# EAGLE library part STM32F030C6T6 (library canusb)
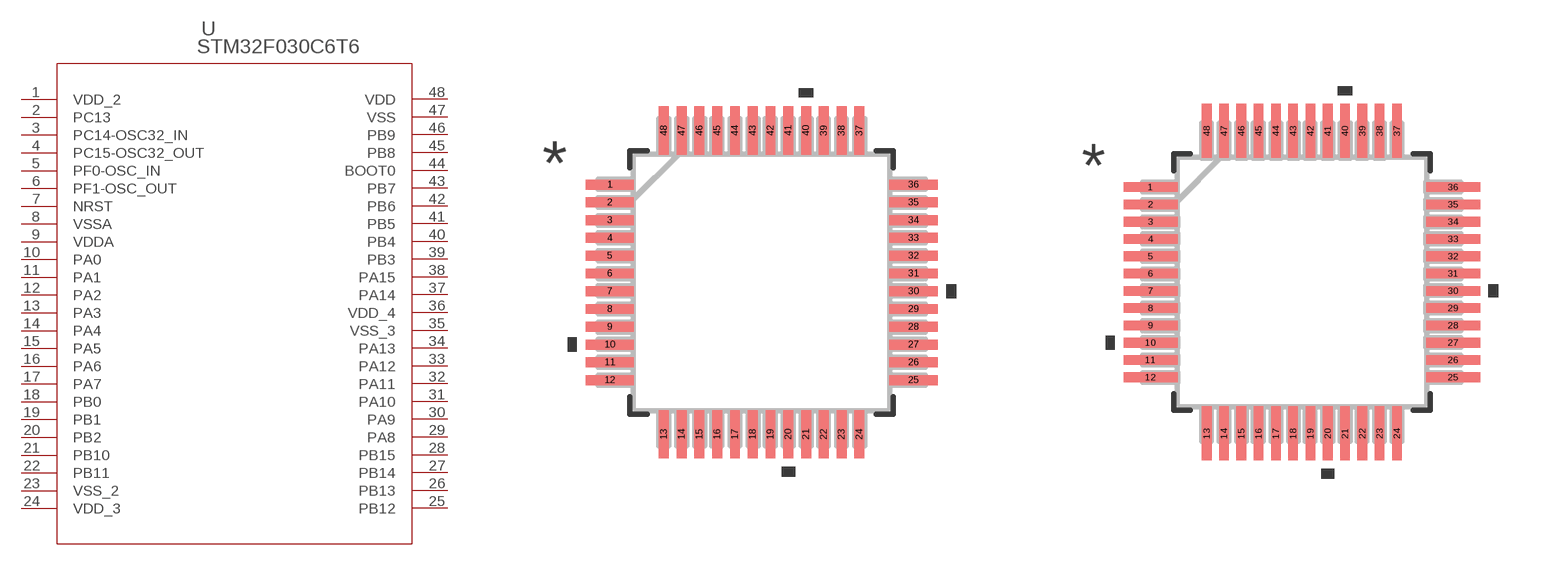
[diagram p8: symbol with the pads of LQFP_STM32F030_STM; footprints LQFP_STM32F030_STM, LQFP_STM32F030_STM-M]

Designator prefix U

## STM32F030C6T6 (BUILT_BY: EMA_Matt; COPYRIGHT: Copyright (C) 2018 Accelerated Designs. All rights reserved; DATASHEET: https://www.st.com/content/ccc/resource/technical/document/datasheet/a4/5d/0b/0e/87/c4/4d/71/DM00088500.pdf/files/DM00088500.pdf/jcr:content/translations/en.DM00088500.pdf; MANUFACTURER_PART_NUMBER: STM32F030C6T6; SOURCELIBRARY: Add_to_database_2020-12-31; VENDOR: STMicroelectronics)  [LQFP_STM32F030_STM]
1  VDD_2  pwr
2  PC13
3  PC14-OSC32_IN
4  PC15-OSC32_OUT  out
5  PF0-OSC_IN
6  PF1-OSC_OUT  out
7  NRST  pas
8  VSSA  pas
9  VDDA  pwr
10  PA0
11  PA1
12  PA2
13  PA3
14  PA4
15  PA5
16  PA6
17  PA7
18  PB0
19  PB1
20  PB2
21  PB10
22  PB11
23  VSS_2  pas
24  VDD_3  pwr
25  PB12
26  PB13
27  PB14
28  PB15
29  PA8
30  PA9
31  PA10
32  PA11
33  PA12
34  PA13
35  VSS_3  pas
36  VDD_4  pwr
37  PA14
38  PA15
39  PB3
40  PB4
41  PB5
42  PB6
43  PB7
44  BOOT0  pas
45  PB8
46  PB9
47  VSS  pas
48  VDD  pwr

## STM32F030C6T6LQFP_STM32F030_STM-M (BUILT_BY: EMA_Matt; COPYRIGHT: Copyright (C) 2018 Accelerated Designs. All rights reserved; DATASHEET: https://www.st.com/content/ccc/resource/technical/document/datasheet/a4/5d/0b/0e/87/c4/4d/71/DM00088500.pdf/files/DM00088500.pdf/jcr:content/translations/en.DM00088500.pdf; MANUFACTURER_PART_NUMBER: STM32F030C6T6; SOURCELIBRARY: Add_to_database_2020-12-31; VENDOR: STMicroelectronics)  [LQFP_STM32F030_STM-M]
Pads as for LQFP_STM32F030_STM

## STM32F030C6T6LQFP_STM32F030_STM-L (BUILT_BY: EMA_Matt; COPYRIGHT: Copyright (C) 2018 Accelerated Designs. All rights reserved; DATASHEET: https://www.st.com/content/ccc/resource/technical/document/datasheet/a4/5d/0b/0e/87/c4/4d/71/DM00088500.pdf/files/DM00088500.pdf/jcr:content/translations/en.DM00088500.pdf; MANUFACTURER_PART_NUMBER: STM32F030C6T6; SOURCELIBRARY: Add_to_database_2020-12-31; VENDOR: STMicroelectronics)  [LQFP_STM32F030_STM-L]
Pads as for LQFP_STM32F030_STM

## Footprint LQFP_STM32F030_STM (pad centres in mm)
smd 1.359 x 0.279: 1 -4.274,2.75; 2 -4.274,2.25; 3 -4.274,1.75; 4 -4.274,1.25; 5 -4.274,0.75; 6 -4.274,0.25; 7 -4.274,-0.25; 8 -4.274,-0.75; 9 -4.274,-1.25; 10 -4.274,-1.75; 11 -4.274,-2.25; 12 -4.274,-2.75; 25 4.274,-2.75; 26 4.274,-2.25; 27 4.274,-1.75; 28 4.274,-1.25; 29 4.274,-0.75; 30 4.274,-0.25; 31 4.274,0.25; 32 4.274,0.75; 33 4.274,1.25; 34 4.274,1.75; 35 4.274,2.25; 36 4.274,2.75
smd 0.279 x 1.359: 13 -2.75,-4.274; 14 -2.25,-4.274; 15 -1.75,-4.274; 16 -1.25,-4.274; 17 -0.75,-4.274; 18 -0.25,-4.274; 19 0.25,-4.274; 20 0.75,-4.274; 21 1.25,-4.274; 22 1.75,-4.274; 23 2.25,-4.274; 24 2.75,-4.274; 37 2.75,4.274; 38 2.25,4.274; 39 1.75,4.274; 40 1.25,4.274; 41 0.75,4.274; 42 0.25,4.274; 43 -0.25,4.274; 44 -0.75,4.274; 45 -1.25,4.274; 46 -1.75,4.274; 47 -2.25,4.274; 48 -2.75,4.274

## Footprint LQFP_STM32F030_STM-M (pad centres in mm)
smd 1.562 x 0.279: 1 -4.375,2.75; 2 -4.375,2.25; 3 -4.375,1.75; 4 -4.375,1.25; 5 -4.375,0.75; 6 -4.375,0.25; 7 -4.375,-0.25; 8 -4.375,-0.75; 9 -4.375,-1.25; 10 -4.375,-1.75; 11 -4.375,-2.25; 12 -4.375,-2.75; 25 4.375,-2.75; 26 4.375,-2.25; 27 4.375,-1.75; 28 4.375,-1.25; 29 4.375,-0.75; 30 4.375,-0.25; 31 4.375,0.25; 32 4.375,0.75; 33 4.375,1.25; 34 4.375,1.75; 35 4.375,2.25; 36 4.375,2.75
smd 0.279 x 1.562: 13 -2.75,-4.375; 14 -2.25,-4.375; 15 -1.75,-4.375; 16 -1.25,-4.375; 17 -0.75,-4.375; 18 -0.25,-4.375; 19 0.25,-4.375; 20 0.75,-4.375; 21 1.25,-4.375; 22 1.75,-4.375; 23 2.25,-4.375; 24 2.75,-4.375; 37 2.75,4.375; 38 2.25,4.375; 39 1.75,4.375; 40 1.25,4.375; 41 0.75,4.375; 42 0.25,4.375; 43 -0.25,4.375; 44 -0.75,4.375; 45 -1.25,4.375; 46 -1.75,4.375; 47 -2.25,4.375; 48 -2.75,4.375

## Footprint LQFP_STM32F030_STM-L (pad centres in mm)
smd 1.156 x 0.229: 1 -4.172,2.75; 2 -4.172,2.25; 3 -4.172,1.75; 4 -4.172,1.25; 5 -4.172,0.75; 6 -4.172,0.25; 7 -4.172,-0.25; 8 -4.172,-0.75; 9 -4.172,-1.25; 10 -4.172,-1.75; 11 -4.172,-2.25; 12 -4.172,-2.75; 25 4.172,-2.75; 26 4.172,-2.25; 27 4.172,-1.75; 28 4.172,-1.25; 29 4.172,-0.75; 30 4.172,-0.25; 31 4.172,0.25; 32 4.172,0.75; 33 4.172,1.25; 34 4.172,1.75; 35 4.172,2.25; 36 4.172,2.75
smd 0.229 x 1.156: 13 -2.75,-4.172; 14 -2.25,-4.172; 15 -1.75,-4.172; 16 -1.25,-4.172; 17 -0.75,-4.172; 18 -0.25,-4.172; 19 0.25,-4.172; 20 0.75,-4.172; 21 1.25,-4.172; 22 1.75,-4.172; 23 2.25,-4.172; 24 2.75,-4.172; 37 2.75,4.172; 38 2.25,4.172; 39 1.75,4.172; 40 1.25,4.172; 41 0.75,4.172; 42 0.25,4.172; 43 -0.25,4.172; 44 -0.75,4.172; 45 -1.25,4.172; 46 -1.75,4.172; 47 -2.25,4.172; 48 -2.75,4.172